# Altium schematic symbol library SnapEDAsch.SchLib: 1 symbol
Pins are listed as number, name and electrical type; pins without a type are passive.

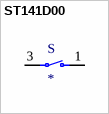
[diagram p0: symbol ST141D00]

## ST141D00
designator S
Toggle Switch SPST Panel Mount; MF: E-Switch; MP: ST141D00; Package: None; Value: *; Price: None; SnapEDA_Link: https://www.snapeda.com/parts/ST141D00/E-Switch/view-part/378912/?ref=snap; Availability: Unavailable
footprint SW_ST141D00
pins: 1, 3